# Altium schematic symbol library Schlib1.SchLib: 3 symbols
Pins are listed as number, name and electrical type; pins without a type are passive.

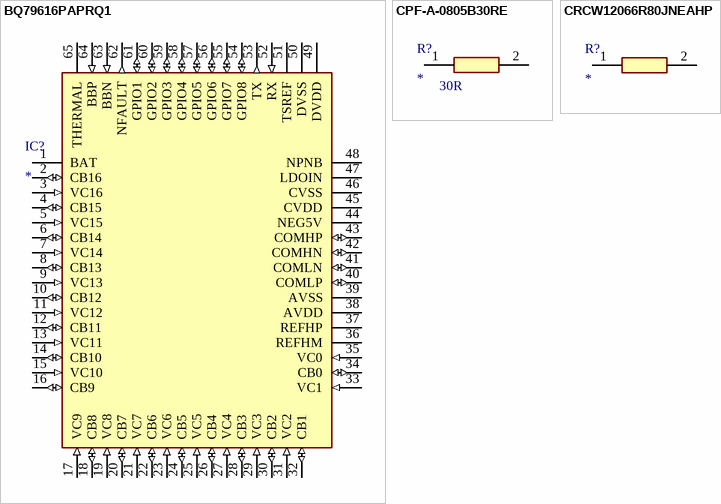
[diagram p0: symbols BQ79616PAPRQ1 to CRCW12066R80JNEAHP]

## BQ79616PAPRQ1
designator IC?
16-S automotive precision battery monitor, balancer and integrated protector with ASIL-D compliance; Manufacturer_Name: Texas Instruments; Manufacturer_Part_Number: BQ79616PAPRQ1; Datasheet Link: https://www.ti.com/lit/ds/symlink/bq79616-q1.pdf?ts=1617242170659&ref_url=https%253A%252F%252Fwww.ti.com%252Fproduct%252FBQ79616-Q1; Height: 1.2mm; Mouser Part Number: 595-BQ79616PAPRQ1; Mouser Price/Stock: https://www.mouser.co.uk/ProductDetail/Texas-Instruments/BQ79616PAPRQ1?qs=eP2BKZSCXI7ZLEv8EAihLQ%3D%3D; Arrow Part Number: BQ79616PAPRQ1; Arrow Price/Stock: https://www.arrow.com/en/products/bq79616paprq1/texas-instruments?region=nac; Supplier 1: DigiKey; Supplier Part Number 1: 296-BQ79616PAPRQ1CT-ND
footprint QFP50P1200X1200X120-65N
pins: 1 BAT (power), 2 CB16 (io), 3 VC16 (in), 4 CB15 (io), 5 VC15 (in), 6 CB14 (io), 7 VC14 (in), 8 CB13 (io), 9 VC13 (in), 10 CB12 (io), 11 VC12 (in), 12 CB11 (io), 13 VC11 (in), 14 CB10 (io), 15 VC10 (in), 16 CB9 (io), 17 VC9 (in), 18 CB8 (io), 19 VC8 (in), 20 CB7 (io), 21 VC7 (in), 22 CB6 (io), 23 VC6 (in), 24 CB5 (io), 25 VC5 (in), 26 CB4 (io), 27 VC4 (in), 28 CB3 (io), 29 VC3 (in), 30 CB2 (io), 31 VC2 (in), 32 CB1 (io), 33 VC1 (in), 34 CB0 (io), 35 VC0 (in), 36 REFHM (power), 37 REFHP (power), 38 AVDD (power), 39 AVSS (power), 40 COMLP (io), 41 COMLN (io), 42 COMHN (io), 43 COMHP (io), 44 NEG5V (power), 45 CVDD (power), 46 CVSS (power), 47 LDOIN (power), 48 NPNB (power), 49 DVDD (power), 50 DVSS (power), 51 TSREF (power), 52 RX (in), 53 TX (out), 54 GPIO8 (io), 55 GPIO7 (io), 56 GPIO6 (io), 57 GPIO5 (io), 58 GPIO4 (io), 59 GPIO3 (io), 60 GPIO2 (io), 61 GPIO1 (io), 62 NFAULT (out), 63 BBN (in), 64 BBP (in), 65 THERMAL

## CPF-A-0805B30RE
designator R?  Parameter 1: 30R
Fixed Resistor, Thin Film, 0.1W, 30ohm, 100V, 0.1% +/-Tol, 25ppm/Cel, Surface Mount, 0805; Manufacturer_Name: TE Connectivity; Manufacturer_Part_Number: CPF-A-0805B30RE; Datasheet Link: https://www.te.com/commerce/DocumentDelivery/DDEController?Action=srchrtrv&DocNm=1773200-1&DocType=DS&DocLang=English; Height: 0.65mm; Mouser Part Number: 279-CPF-A-0805B30RE; Mouser Price/Stock: https://www.mouser.co.uk/ProductDetail/TE-Connectivity-Holsworthy/CPF-A-0805B30RE?qs=chTDxNqvsymgJrfH1deiPw%3D%3D; Supplier 1: DigiKey; Supplier Part Number 1: 1712-CPF-A-0805B30RECT-ND
footprint RESC2012X65N
pins: 1, 2

## CRCW12066R80JNEAHP
designator R?
Resistor; Manufacturer_Name: Vishay; Manufacturer_Part_Number: CRCW12066R80JNEAHP; Description: Standard Thick Film Chip Resistors value 6R80 ohm.; Height: 0.65mm
footprint RESC3116X65N
pins: 1, 2